# EAGLE library part USB-MINI-651005136421 (library Kemper-Connectors)
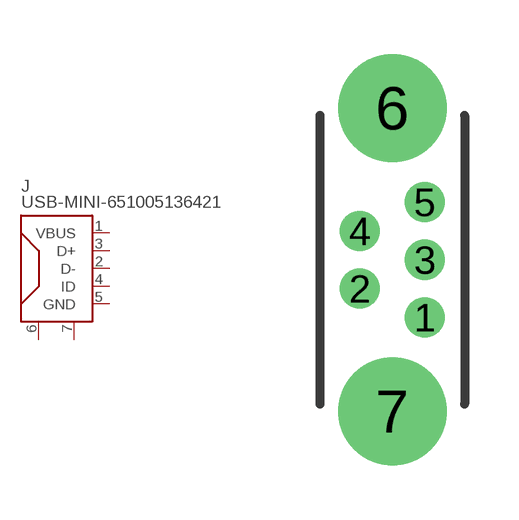
[diagram p0: symbol with the pads of 651005136421; footprint 651005136421]

Designator prefix J

## USB-MINI-651005136421 (DIGIKEY: 732-2735-ND)  [651005136421]
1  VBUS
2  D-
3  D+
4  ID
5  GND
6  SHEILD1
7  SHEILD2

## Footprint 651005136421 (pad centres in mm)
drill 0.6 pad 1.016: 1 0.9,-1.6; 2 -0.9,-0.8; 3 0.9,0; 4 -0.9,0.8; 5 0.9,1.6
drill 2: 6 0,4.2; 7 0,-4.2